# Altium footprint library VR.PcbLib: 1 footprints
Each footprint in its own frame and in the unit in brackets; x right, y up, seen from the top. Pads: shape width x height; smd on the part's side, far side on the other; paste and mask are expansions set on the pad; w line width, h text height; cw(c..) or ccw(c..) is an arc to the next point about the centre after c.
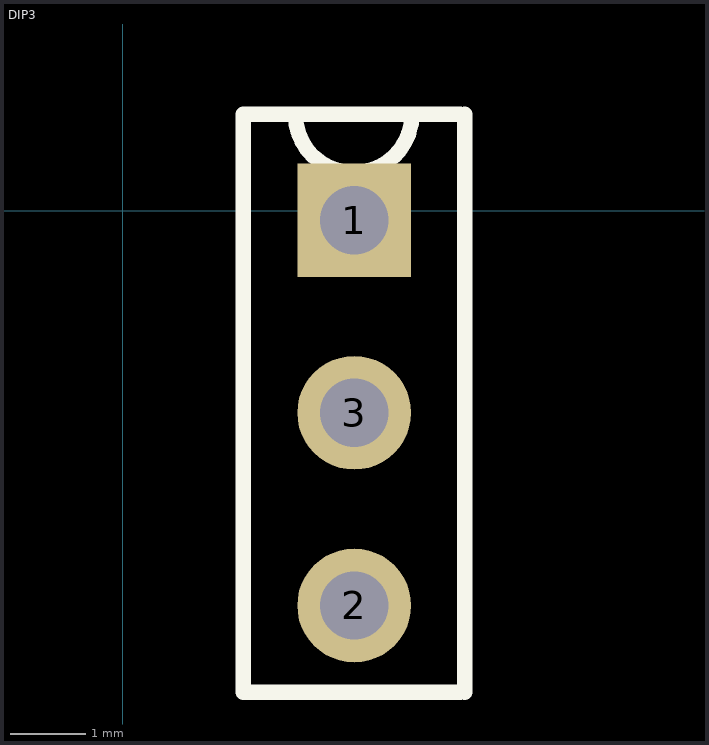
[diagram p0: the footprint, top view; thin cyan lines are the x and y axes]

## DIP3 [mm]
pads (3):
  rect 1.5x1.5 hole 0.9: 1(3.048,-0.127)
  round 1.5 hole 0.9: 2(3.048,-5.207) 3(3.048,-2.667)
Top Overlay:
  lines w0.2: 2.271,1.27 ccw(c3.041,1.27) 3.81,1.27 ; 4.445,-6.35 1.585,-6.35 1.585,1.27 4.445,1.27 ; 4.506,-6.35 4.506,1.27